# EAGLE library part PHEONIX-1844252 (library Ernest_Connectors)
6- Pin 3.5mm pitch, 90 deg plug-in. Pheonix-1844252 connector. Datasheet: https://media.digikey.com/pdf/Data%20Sheets/Phoenix%20Contact%20PDFs/1844252.pdf
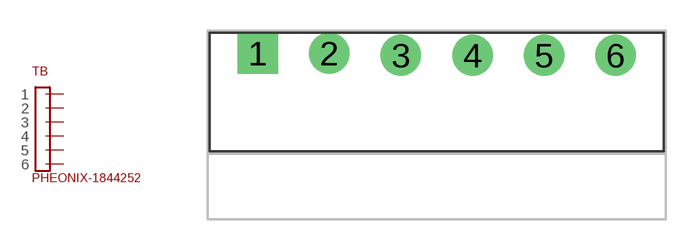
[diagram p0: symbol with the pads of PHEONIX_1844252; footprint PHEONIX_1844252]

Designator prefix TB

## PHEONIX-1844252  [PHEONIX_1844252]
1  1
2  2
3  3
4  4
5  5
6  6

## Footprint PHEONIX_1844252 (pad centres in mm)
Footprint for Pheonix-1844252 connector. https://media.digikey.com/pdf/Data%20Sheets/Phoenix%20Contact%20PDFs/1844252.pdf
drill 1.321 square: 1 -8.75,0.1
drill 1.321: 2 -5.25,0.1; 3 -1.75,0; 4 1.75,0; 5 5.25,0; 6 8.75,0